# Altium schematic symbol library ESP32-S3-WROOM-1.SchLib: 61 symbols (part 5 of 7)
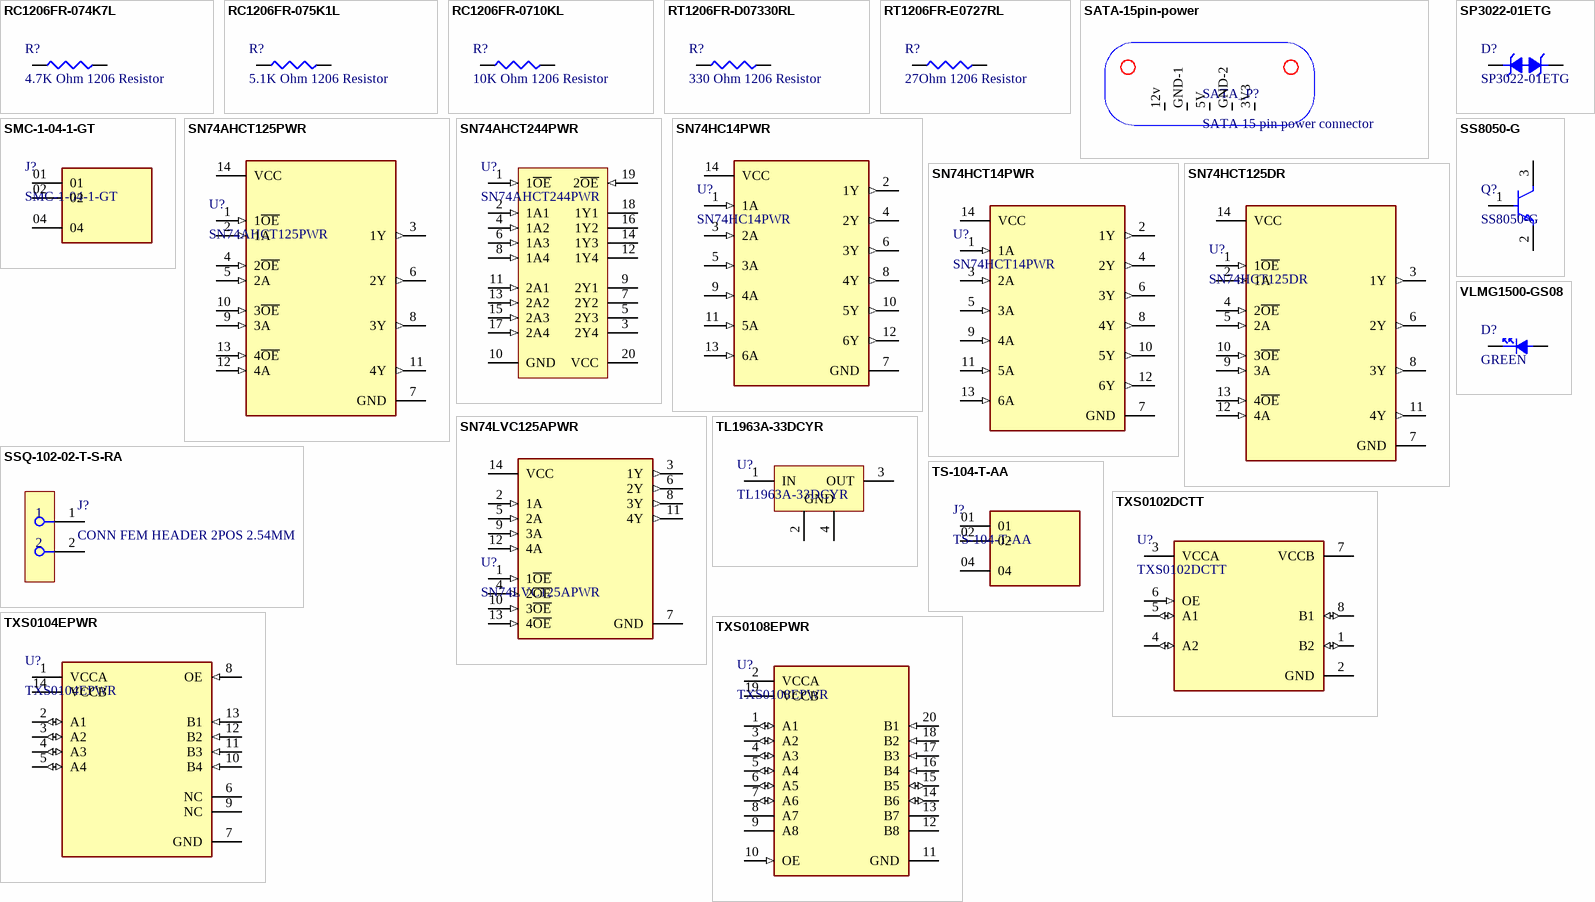
[diagram p5: symbols RC1206FR-074K7L to VLMG1500-GS08]

## SN74AHCT125PWR
designator U?
Buffer, Non-Inverting 4 Element 1 Bit per Element 3-State Output 14-TSSOP; Manufacturer: Texas Instruments; Manufacturer Lifecycle Status: ACTIVE; High Level Output Current: -8mA; Logic Function: Buffer, Inverting; Low Level Output Current: 8mA; Max Supply Voltage: 5.5V; Min Supply Voltage: 4.5V; Number of Bits: 4; Number of Bits per Element: 1; Operating Supply Voltage: 5V; Propagation Delay: 7.5ns; Quiescent Current: 2µA; Turn-On Delay Time: 10ns; Supplier: DigiKey; Supplier Part Number: 296-1108-1-ND; Manufacturer Part Number: SN74AHCT125PWR; RoHS: Compliant; Category: Buffers, Drivers and Transceivers; Stock: 7542; Pricing: 1=0.37, 10=0.255, 25=0.37, 100=0.1968, 250=0.18232, 500=0.17356, 1000=0.16658 (EUR); Case/Package: TSSOP; Height: 0m; Lead Free: Lead Free; Length: 5mm; Lifecycle Status: Production; Max Operating Temperature: 125°C; Min Operating Temperature: -40°C; Mounting Technology: Surface Mount; Number of Channels: 4; Number of Circuits: 4; Number of Elements: 4; Number of Input Lines: 4; Number of Inputs: 4; Number of Output Lines: 4; Number of Outputs: 4; Pins: 14; Packaging: Cut Tape; Polarity: Non-Inverting; Radiation Hardening: No; REACH SVHC: No; Schedule B: 8542390000, 8542390000|8542390000|8542390000|8542390000|8542390000; Thickness: 1mm; Width: 4.4mm; ComponentLink1URL: https://sigma.octopart.com:443/182471031/technical_drawing/Texas-Instruments-SN74AHCT125PWR.pdf?src-supplier=Texas+Instruments; ComponentLink1Description: https://sigma.octopart.com:443/182471031/technical_drawing/Texas-Instruments-SN74AHCT125PWR.pdf?src-supplier=Texas+Instruments; ComponentLink2URL: https://octopart.com:443/opatz8j6/c1?t=b4ISKB42rleMyitUhtZh1S7NnrRTez5ZmJiqnywxnjJ0PMEwORWw-hWuP0mkps2yUWodIIzH-1dVbo-vrJq2phLfOMzKCmhzz-TC0v_M0ZeAOjJbni96T6dkR5JhE7Q2OEr_tSBkqSVGRCWYcQIs7H_SydEvJLdqHoS6u77Qqgon95mVOr1Fkw3PeULcnIXY7uPfvN1stwzLp2iqzFPl8KdhebMhuLijNHTudKes0qeDi5gpjhpZ3Km5lPePg303motdgCvNLREyAos5FgaySZjoGY_wAWkGDyeCM64qM5E1zN-yKO4dipR6vaFzDXG7Pgqq-GieXRJuVHvyxGKsFgWoi7HMJGioN4c4_zYmUwcXIMDGWIchrvwqTKnqPzM3bbbKdQP3q9o&src-supplier=Texas+Instruments; ComponentLink2Description: https://octopart.com:443/opatz8j6/c1?t=b4ISKB42rleMyitUhtZh1S7NnrRTez5ZmJiqnywxnjJ0PMEwORWw-hWuP0mkps2yUWodIIzH-1dVbo-vrJq2phLfOMzKCmhzz-TC0v_M0ZeAOjJbni96T6dkR5JhE7Q2OEr_tSBkqSVGRCWYcQIs7H_SydEvJLdqHoS6u77Qqgon95mVOr1Fkw3PeULcnIXY7uPfvN1stwzLp2iqzFPl8KdhebMhuLijNHTudKes0qeDi5gpjhpZ3Km5lPePg303motdgCvNLREyAos5FgaySZjoGY_wAWkGDyeCM64qM5E1zN-yKO4dipR6vaFzDXG7Pgqq-GieXRJuVHvyxGKsFgWoi7HMJGioN4c4_zYmUwcXIMDGWIchrvwqTKnqPzM3bbbKdQP3q9o&src-supplier=Texas+Instruments; ComponentLink3URL: https://datasheet.octopart.com:443/SN74AHCT125PWR-Texas-Instruments-datasheet-10255123.pdf?src-supplier=Texas+Instruments; ComponentLink3Description: https://datasheet.octopart.com:443/SN74AHCT125PWR-Texas-Instruments-datasheet-10255123.pdf?src-supplier=Texas+Instruments; ComponentLink4URL: https://sigma.octopart.com:443/49249819/technical_drawing/Texas-Instruments-SN74AHCT125PWR.pdf?src-supplier=Texas+Instruments; ComponentLink4Description: https://sigma.octopart.com:443/49249819/technical_drawing/Texas-Instruments-SN74AHCT125PWR.pdf?src-supplier=Texas+Instruments; ComponentLink5URL: https://datasheet.octopart.com:443/SN74AHCT125PWR-Texas-Instruments-datasheet-148811.pdf?src-supplier=Texas+Instruments; ComponentLink5Description: https://datasheet.octopart.com:443/SN74AHCT125PWR-Texas-Instruments-datasheet-148811.pdf?src-supplier=Texas+Instruments; ComponentLink6URL: https://datasheet.octopart.com:443/SN74AHCT125PWR-Texas-Instruments-datasheet-31669041.pdf?src-supplier=Farnell; ComponentLink6Description: https://datasheet.octopart.com:443/SN74AHCT125PWR-Texas-Instruments-datasheet-31669041.pdf?src-supplier=Farnell; ComponentLink7URL: https://datasheet.octopart.com:443/SN74AHCT125PWR-Texas-Instruments-datasheet-62314206.pdf?src-supplier=Farnell; ComponentLink7Description: https://datasheet.octopart.com:443/SN74AHCT125PWR-Texas-Instruments-datasheet-62314206.pdf?src-supplier=Farnell; ComponentLink8URL: https://datasheet.octopart.com:443/SN74AHCT125PWR-Texas-Instruments-datasheet-37727060.pdf?src-supplier=Farnell; ComponentLink8Description: https://datasheet.octopart.com:443/SN74AHCT125PWR-Texas-Instruments-datasheet-37727060.pdf?src-supplier=Farnell; ComponentLink9URL: https://datasheet.octopart.com:443/SN74AHCT125PWR-Texas-Instruments-datasheet-32026623.pdf?src-supplier=Newark; ComponentLink9Description: https://datasheet.octopart.com:443/SN74AHCT125PWR-Texas-Instruments-datasheet-32026623.pdf?src-supplier=Newark; ComponentLink10URL: https://datasheet.octopart.com:443/SN74AHCT125PWR-Texas-Instruments-datasheet-10468681.pdf?src-supplier=Newark; ComponentLink10Description: https://datasheet.octopart.com:443/SN74AHCT125PWR-Texas-Instruments-datasheet-10468681.pdf?src-supplier=Newark; ComponentLink11URL: https://datasheet.octopart.com:443/SN74AHCT125PWR-Texas-Instruments-datasheet-8703733.pdf?src-supplier=Newark; ComponentLink11Description: https://datasheet.octopart.com:443/SN74AHCT125PWR-Texas-Instruments-datasheet-8703733.pdf?src-supplier=Newark; ComponentLink12URL: https://datasheet.octopart.com:443/SN74AHCT125PWR-Texas-Instruments-datasheet-7615769.pdf?src-supplier=Newark; ComponentLink12Description: https://datasheet.octopart.com:443/SN74AHCT125PWR-Texas-Instruments-datasheet-7615769.pdf?src-supplier=Newark; ComponentLink13URL: https://datasheet.octopart.com:443/SN74AHCT125PWR-Texas-Instruments-datasheet-164416681.pdf?src-supplier=LCSC; ComponentLink13Description: https://datasheet.octopart.com:443/SN74AHCT125PWR-Texas-Instruments-datasheet-164416681.pdf?src-supplier=LCSC; ComponentLink14URL: https://datasheet.octopart.com:443/SN74AHCT125PWR-Texas-Instruments-datasheet-159115847.pdf?src-supplier=LCSC; ComponentLink14Description: https://datasheet.octopart.com:443/SN74AHCT125PWR-Texas-Instruments-datasheet-159115847.pdf?src-supplier=LCSC; ComponentLink15URL: https://datasheet.octopart.com:443/SN74AHCT125PWR-Texas-Instruments-datasheet-62115950.pdf?src-supplier=element14+APAC; ComponentLink15Description: https://datasheet.octopart.com:443/SN74AHCT125PWR-Texas-Instruments-datasheet-62115950.pdf?src-supplier=element14+APAC; ComponentLink16URL: https://datasheet.octopart.com:443/SN74AHCT125PWR-Texas-Instruments-datasheet-14144370.pdf?src-supplier=iiiC; ComponentLink16Description: https://datasheet.octopart.com:443/SN74AHCT125PWR-Texas-Instruments-datasheet-14144370.pdf?src-supplier=iiiC; ComponentLink17URL: https://datasheet.octopart.com:443/SN74AHCT125PWR-Texas-Instruments-datasheet-11525412.pdf?src-supplier=Arrow+Electronics; ComponentLink17Description: https://datasheet.octopart.com:443/SN74AHCT125PWR-Texas-Instruments-datasheet-11525412.pdf?src-supplier=Arrow+Electronics; ComponentLink18URL: https://datasheet.octopart.com:443/SN74AHCT125PWR-Texas-Instruments-datasheet-8364514.pdf?src-supplier=Jameco; ComponentLink18Description: https://datasheet.octopart.com:443/SN74AHCT125PWR-Texas-Instruments-datasheet-8364514.pdf?src-supplier=Jameco; ComponentLink19URL: https://datasheet.octopart.com:443/SN74AHCT125PWR-Texas-Instruments-datasheet-115055.pdf?src-supplier=Sierra+IC; ComponentLink19Description: https://datasheet.octopart.com:443/SN74AHCT125PWR-Texas-Instruments-datasheet-115055.pdf?src-supplier=Sierra+IC; ComponentLink20URL: https://datasheet.octopart.com:443/SN74AHCT125PWR-Texas-Instruments-datasheet-35848.pdf?src-supplier=DigiKey; ComponentLink20Description: https://datasheet.octopart.com:443/SN74AHCT125PWR-Texas-Instruments-datasheet-35848.pdf?src-supplier=DigiKey; ComponentLink21URL: http://sigma.octopart.com:80/conflict_mineral_statement/Texas-Instruments-company-63.pdf?src-supplier=Compliance+Statements; ComponentLink21Description: http://sigma.octopart.com:80/conflict_mineral_statement/Texas-Instruments-company-63.pdf?src-supplier=Compliance+Statements; ComponentLink22URL: http://sigma.octopart.com:80/reach_statement/Texas-Instruments-company-64.pdf?src-supplier=Compliance+Statements; ComponentLink22Description: http://sigma.octopart.com:80/reach_statement/Texas-Instruments-company-64.pdf?src-supplier=Compliance+Statements; LCSC Part Number: C36365
footprint SN74AHCT125PWR (SOP, 14-Leads, Body 5.1x4.5mm, Pitch 0.65mm, IPC Medium Density)
pins: 1 1~{OE} (in), 2 1A (in), 3 1Y (out), 4 2~{OE} (in), 5 2A (in), 6 2Y (out), 7 GND (power), 8 3Y (out), 9 3A (in), 10 3~{OE} (in), 11 4Y (out), 12 4A (in), 13 4~{OE} (in), 14 VCC (power)

## SN74AHCT244PWR
designator U?
IC BUFF NON-INVERT 5.5V 20-TSSOP; Manufacturer: Texas Instruments; Manufacturer Lifecycle Status: ACTIVE; High Level Output Current: -8mA; Logic Function: Buffer, Inverting; Low Level Output Current: 8mA; Min Supply Voltage: 4.5V; Number of Bits: 8; Number of Bits per Element: 4; Number of Elements: 2; Operating Supply Voltage: 5V; Polarity: Non-Inverting; Propagation Delay: 8.4ns; Quiescent Current: 4µA; Turn-On Delay Time: 13ns; Supplier: DigiKey; Supplier Part Number: 296-1116-1-ND; Manufacturer Part Number: SN74AHCT244PWR; RoHS: Compliant; Category: Buffers, Drivers and Transceivers; Stock: 11683; Pricing: 1=0.43, 10=0.302, 25=0.43, 100=0.2343, 250=0.21744, 500=0.2073, 1000=0.20069 (EUR); Case/Package: TSSOP; Contact Plating: Gold; Height: 0m; Lead Free: Lead Free; Length: 6.5mm; Lifecycle Status: Production; Max Operating Temperature: 85°C; Max Supply Voltage: 5.5V; Min Operating Temperature: -40°C; Mounting Technology: Surface Mount; Number of Input Lines: 8; Number of Inputs: 8; Number of Output Lines: 8; Number of Outputs: 8; Pins: 20; Packaging: Cut Tape; Radiation Hardening: No; REACH SVHC: No; Schedule B: 8542390000, 8542390000|8542390000|8542390000|8542390000|8542390000; Termination: SMD/SMT; Thickness: 1mm; Width: 4.4mm; ComponentLink1URL: https://sigma.octopart.com:443/157851284/technical_drawing/Texas-Instruments-SN74AHCT244PWR.pdf?src-supplier=Texas+Instruments; ComponentLink1Description: https://sigma.octopart.com:443/157851284/technical_drawing/Texas-Instruments-SN74AHCT244PWR.pdf?src-supplier=Texas+Instruments; ComponentLink2URL: https://octopart.com:443/opatz8j6/c1?t=ghJe61n6HiV89-olIjnD38o8K6r9WHTix1tz--1XTpLdkr2Jj0G4zOn4bLiip8ksXJJvDeh_h3XhqV3jFUJDynLYxNoMjyL6NHEpR466wJPtLzw6tBs8gVvIJiLd6aD6UOZIFlskqp0Ep-8gAfLYIZrLVC2xGoymhvH6oXEY9SqN9vbZTloM6avEvf1MB4bD9V1LVp5Lqbi76W7Pl0ucb4l3O25e1vmsXHl0eRZQQtPLcXZwTMNzzJtWnucU1VVaUsawfLREJD5cDAmW7KbiTywpqqWmTFGKRQhdz7VfrRB-SHHmtMjKPksFRvFMQGN1zkEgT_5fzMhbt_l2pvOSM86ovXfmvhbsuKtmu2Jjs9X6CZO94yvkhC5MZAtb2ElL0nUN7tboUw&src-supplier=Texas+Instruments; ComponentLink2Description: https://octopart.com:443/opatz8j6/c1?t=ghJe61n6HiV89-olIjnD38o8K6r9WHTix1tz--1XTpLdkr2Jj0G4zOn4bLiip8ksXJJvDeh_h3XhqV3jFUJDynLYxNoMjyL6NHEpR466wJPtLzw6tBs8gVvIJiLd6aD6UOZIFlskqp0Ep-8gAfLYIZrLVC2xGoymhvH6oXEY9SqN9vbZTloM6avEvf1MB4bD9V1LVp5Lqbi76W7Pl0ucb4l3O25e1vmsXHl0eRZQQtPLcXZwTMNzzJtWnucU1VVaUsawfLREJD5cDAmW7KbiTywpqqWmTFGKRQhdz7VfrRB-SHHmtMjKPksFRvFMQGN1zkEgT_5fzMhbt_l2pvOSM86ovXfmvhbsuKtmu2Jjs9X6CZO94yvkhC5MZAtb2ElL0nUN7tboUw&src-supplier=Texas+Instruments; ComponentLink3URL: https://datasheet.octopart.com:443/SN74AHCT244PWR-Texas-Instruments-datasheet-41214155.pdf?src-supplier=Texas+Instruments; ComponentLink3Description: https://datasheet.octopart.com:443/SN74AHCT244PWR-Texas-Instruments-datasheet-41214155.pdf?src-supplier=Texas+Instruments; ComponentLink4URL: https://datasheet.octopart.com:443/SN74AHCT244PWR-Texas-Instruments-datasheet-10254144.pdf?src-supplier=Texas+Instruments; ComponentLink4Description: https://datasheet.octopart.com:443/SN74AHCT244PWR-Texas-Instruments-datasheet-10254144.pdf?src-supplier=Texas+Instruments; ComponentLink5URL: https://sigma.octopart.com:443/49249835/technical_drawing/Texas-Instruments-SN74AHCT244PWR.pdf?src-supplier=Texas+Instruments; ComponentLink5Description: https://sigma.octopart.com:443/49249835/technical_drawing/Texas-Instruments-SN74AHCT244PWR.pdf?src-supplier=Texas+Instruments; ComponentLink6URL: https://datasheet.octopart.com:443/SN74AHCT244PWR-Texas-Instruments-datasheet-152663.pdf?src-supplier=Texas+Instruments; ComponentLink6Description: https://datasheet.octopart.com:443/SN74AHCT244PWR-Texas-Instruments-datasheet-152663.pdf?src-supplier=Texas+Instruments; ComponentLink7URL: https://datasheet.octopart.com:443/SN74AHCT244PWR-Texas-Instruments-datasheet-27606291.pdf?src-supplier=element14+APAC; ComponentLink7Description: https://datasheet.octopart.com:443/SN74AHCT244PWR-Texas-Instruments-datasheet-27606291.pdf?src-supplier=element14+APAC; ComponentLink8URL: https://datasheet.octopart.com:443/SN74AHCT244PWR-Texas-Instruments-datasheet-21133542.pdf?src-supplier=element14+APAC; ComponentLink8Description: https://datasheet.octopart.com:443/SN74AHCT244PWR-Texas-Instruments-datasheet-21133542.pdf?src-supplier=element14+APAC; ComponentLink9URL: https://datasheet.octopart.com:443/SN74AHCT244PWR-Texas-Instruments-datasheet-27203569.pdf?src-supplier=element14+APAC; ComponentLink9Description: https://datasheet.octopart.com:443/SN74AHCT244PWR-Texas-Instruments-datasheet-27203569.pdf?src-supplier=element14+APAC; ComponentLink10URL: https://datasheet.octopart.com:443/SN74AHCT244PWR-Texas-Instruments-datasheet-25360952.pdf?src-supplier=element14+APAC; ComponentLink10Description: https://datasheet.octopart.com:443/SN74AHCT244PWR-Texas-Instruments-datasheet-25360952.pdf?src-supplier=element14+APAC; ComponentLink11URL: https://datasheet.octopart.com:443/SN74AHCT244PWR-Texas-Instruments-datasheet-65863357.pdf?src-supplier=Farnell; ComponentLink11Description: https://datasheet.octopart.com:443/SN74AHCT244PWR-Texas-Instruments-datasheet-65863357.pdf?src-supplier=Farnell; ComponentLink12URL: https://datasheet.octopart.com:443/SN74AHCT244PWR-Texas-Instruments-datasheet-11523990.pdf?src-supplier=Farnell; ComponentLink12Description: https://datasheet.octopart.com:443/SN74AHCT244PWR-Texas-Instruments-datasheet-11523990.pdf?src-supplier=Farnell; ComponentLink13URL: https://datasheet.octopart.com:443/SN74AHCT244PWR-Texas-Instruments-datasheet-11003095.pdf?src-supplier=Farnell; ComponentLink13Description: https://datasheet.octopart.com:443/SN74AHCT244PWR-Texas-Instruments-datasheet-11003095.pdf?src-supplier=Farnell; ComponentLink14URL: https://datasheet.octopart.com:443/SN74AHCT244PWR-Texas-Instruments-datasheet-8361317.pdf?src-supplier=Newark; ComponentLink14Description: https://datasheet.octopart.com:443/SN74AHCT244PWR-Texas-Instruments-datasheet-8361317.pdf?src-supplier=Newark; ComponentLink15URL: https://datasheet.octopart.com:443/SN74AHCT244PWR-Texas-Instruments-datasheet-5317733.pdf?src-supplier=Newark; ComponentLink15Description: https://datasheet.octopart.com:443/SN74AHCT244PWR-Texas-Instruments-datasheet-5317733.pdf?src-supplier=Newark; ComponentLink16URL: https://datasheet.octopart.com:443/SN74AHCT244PWR-Texas-Instruments-datasheet-166100610.pdf?src-supplier=Augswan; ComponentLink16Description: https://datasheet.octopart.com:443/SN74AHCT244PWR-Texas-Instruments-datasheet-166100610.pdf?src-supplier=Augswan; ComponentLink17URL: https://datasheet.octopart.com:443/SN74AHCT244PWR-Texas-Instruments-datasheet-164411996.pdf?src-supplier=SHENGYU+ELECTRONICS; ComponentLink17Description: https://datasheet.octopart.com:443/SN74AHCT244PWR-Texas-Instruments-datasheet-164411996.pdf?src-supplier=SHENGYU+ELECTRONICS; ComponentLink18URL: https://datasheet.octopart.com:443/SN74AHCT244PWR-Texas-Instruments-datasheet-159115862.pdf?src-supplier=LCSC; ComponentLink18Description: https://datasheet.octopart.com:443/SN74AHCT244PWR-Texas-Instruments-datasheet-159115862.pdf?src-supplier=LCSC; ComponentLink19URL: https://datasheet.octopart.com:443/SN74AHCT244PWR-Texas-Instruments-datasheet-17022234.pdf?src-supplier=Factory+Futures; ComponentLink19Description: https://datasheet.octopart.com:443/SN74AHCT244PWR-Texas-Instruments-datasheet-17022234.pdf?src-supplier=Factory+Futures; ComponentLink20URL: https://datasheet.octopart.com:443/SN74AHCT244PWR-Texas-Instruments-datasheet-14144309.pdf?src-supplier=iiiC; ComponentLink20Description: https://datasheet.octopart.com:443/SN74AHCT244PWR-Texas-Instruments-datasheet-14144309.pdf?src-supplier=iiiC; ComponentLink21URL: https://datasheet.octopart.com:443/SN74AHCT244PWR-Texas-Instruments-datasheet-7556590.pdf?src-supplier=Jameco; ComponentLink21Description: https://datasheet.octopart.com:443/SN74AHCT244PWR-Texas-Instruments-datasheet-7556590.pdf?src-supplier=Jameco; ComponentLink22URL: https://datasheet.octopart.com:443/SN74AHCT244PWR-Texas-Instruments-datasheet-115050.pdf?src-supplier=Sierra+IC; ComponentLink22Description: https://datasheet.octopart.com:443/SN74AHCT244PWR-Texas-Instruments-datasheet-115050.pdf?src-supplier=Sierra+IC; ComponentLink23URL: https://datasheet.octopart.com:443/SN74AHCT244PWR-Texas-Instruments-datasheet-2641.pdf?src-supplier=DigiKey; ComponentLink23Description: https://datasheet.octopart.com:443/SN74AHCT244PWR-Texas-Instruments-datasheet-2641.pdf?src-supplier=DigiKey; ComponentLink24URL: http://sigma.octopart.com:80/conflict_mineral_statement/Texas-Instruments-company-63.pdf?src-supplier=Compliance+Statements; ComponentLink24Description: http://sigma.octopart.com:80/conflict_mineral_statement/Texas-Instruments-company-63.pdf?src-supplier=Compliance+Statements; ComponentLink25URL: http://sigma.octopart.com:80/reach_statement/Texas-Instruments-company-64.pdf?src-supplier=Compliance+Statements; ComponentLink25Description: http://sigma.octopart.com:80/reach_statement/Texas-Instruments-company-64.pdf?src-supplier=Compliance+Statements; LCSC Part Number: C484743
footprint SN74AHCT244PWR (SOP, 20-Leads, Body 6.6x4.5mm, Pitch 0.65mm, IPC High Density)
pins: 1 1~{OE} (in) "Output Enable 1", 2 1A1 (in) "1A1 Input", 3 2Y4 (hiz) "1Y4 Output", 4 1A2 (in) "1A2 Input", 5 2Y3 (hiz) "1Y3 Output", 6 1A3 (in) "1A3 Input", 7 2Y2 (hiz) "1Y2 Output", 8 1A4 (in) "1A4 Input", 9 2Y1 (hiz) "1Y1 Output", 10 GND (power) "Output Enable 1", 11 2A1 (in) "1A1 Input", 12 1Y4 (hiz) "1Y4 Output", 13 2A2 (in) "1A2 Input", 14 1Y3 (hiz) "1Y3 Output", 15 2A3 (in) "1A3 Input", 16 1Y2 (hiz) "1Y2 Output", 17 2A4 (in) "1A4 Input", 18 1Y1 (hiz) "1Y1 Output", 19 2~{OE} (in) "Output Enable 1", 20 VCC (power)

## SN74HC14PWR
designator U?
IC INVERTER 6CH 1-INP 14TSSOP; Manufacturer: Texas Instruments; Manufacturer Lifecycle Status: ACTIVE; High Level Output Current: -5.2mA; Logic Function: Buffer, Inverter, Schmitt Trigger; Low Level Output Current: 5.2mA; Max Junction Temperature (Tj): 150°C; Max Supply Voltage: 6V; Min Supply Voltage: 2V; Nominal Supply Current: 2µA; Number of Bits: 6; Number of Inputs: 1; Operating Supply Voltage: 5V; Output Current: 25mA; Propagation Delay: 11ns; Turn-On Delay Time: 31ns; Supplier: DigiKey; Supplier Part Number: 296-8234-1-ND; Manufacturer Part Number: SN74HC14PWR; RoHS: Compliant; Category: Logic Gates; Stock: 34107; Pricing: 1=0.25, 10=0.174, 25=0.25, 100=0.1324, 250=0.12204, 500=0.11582, 1000=0.11069 (EUR); Ambient Temperature Range High: 85°C; Case/Package: TSSOP; Contact Plating: Gold; Height: 0m; Lead Free: Lead Free; Length: 5mm; Lifecycle Status: Production; Max Operating Temperature: 85°C; Min Operating Temperature: -40°C; Mounting Technology: Surface Mount; Number of Channels: 6; Number of Circuits: 6; Number of Elements: 6; Number of Gates: 6; Number of Outputs: 1; Pins: 14; Quiescent Current: 2µA; Radiation Hardening: No; REACH SVHC: No; Schedule B: 8542390000, 8542390000|8542390000|8542390000|8542390000|8542390000; Thickness: 1mm; Weight: 57.209338mg; Width: 4.4mm; ComponentLink1URL: https://sigma.octopart.com:443/182471031/technical_drawing/Texas-Instruments-SN74HC14PWR.pdf?src-supplier=Texas+Instruments; ComponentLink1Description: https://sigma.octopart.com:443/182471031/technical_drawing/Texas-Instruments-SN74HC14PWR.pdf?src-supplier=Texas+Instruments; ComponentLink2URL: https://octopart.com:443/opatz8j6/c1?t=mgRqS-hfAv7mW99aHGtXe0uUQtkE4j_ResFexbnUcfozyNiycuVPUD79LJdKfGOCnCdkgkYZTUKD9_-dfm0Fcd2jq3Eu8k-uXuUYFXBpJ7Fb_Dfnew8Ij2yrF2NZXflAE1Q8RIB_BRTD8wfNgg4gHkuUohgl8J8utb9PDFkQshknjIQL1jQPyJjA17LwX5cfq7MDZsGjhLLtgG-DO7cbyCef4COWysZxDjztciZmLaZLrABMH2FQMHC6HNyCzTqN1Wgw2LiaTUC6_zrgfsxfl-iQ2kU3qIlY6q5pj8XVvm1obkSu-F1OyAmKNyh8mkA6ypTuZJh0ZT_h2OZ458n8XOPegfQ8-jxvAxswD2V3FJ6yclYDOJwov7Kxj2cqY3xhFk-1Ew&src-supplier=Texas+Instruments; ComponentLink2Description: https://octopart.com:443/opatz8j6/c1?t=mgRqS-hfAv7mW99aHGtXe0uUQtkE4j_ResFexbnUcfozyNiycuVPUD79LJdKfGOCnCdkgkYZTUKD9_-dfm0Fcd2jq3Eu8k-uXuUYFXBpJ7Fb_Dfnew8Ij2yrF2NZXflAE1Q8RIB_BRTD8wfNgg4gHkuUohgl8J8utb9PDFkQshknjIQL1jQPyJjA17LwX5cfq7MDZsGjhLLtgG-DO7cbyCef4COWysZxDjztciZmLaZLrABMH2FQMHC6HNyCzTqN1Wgw2LiaTUC6_zrgfsxfl-iQ2kU3qIlY6q5pj8XVvm1obkSu-F1OyAmKNyh8mkA6ypTuZJh0ZT_h2OZ458n8XOPegfQ8-jxvAxswD2V3FJ6yclYDOJwov7Kxj2cqY3xhFk-1Ew&src-supplier=Texas+Instruments; ComponentLink3URL: https://datasheet.octopart.com:443/SN74HC14PWR-Texas-Instruments-datasheet-22122188.pdf?src-supplier=Texas+Instruments; ComponentLink3Description: https://datasheet.octopart.com:443/SN74HC14PWR-Texas-Instruments-datasheet-22122188.pdf?src-supplier=Texas+Instruments; ComponentLink4URL: https://datasheet.octopart.com:443/SN74HC14PWR-Texas-Instruments-datasheet-10743327.pdf?src-supplier=Texas+Instruments; ComponentLink4Description: https://datasheet.octopart.com:443/SN74HC14PWR-Texas-Instruments-datasheet-10743327.pdf?src-supplier=Texas+Instruments; ComponentLink5URL: https://datasheet.octopart.com:443/SN74HC14PWR-Texas-Instruments-datasheet-10254369.pdf?src-supplier=Texas+Instruments; ComponentLink5Description: https://datasheet.octopart.com:443/SN74HC14PWR-Texas-Instruments-datasheet-10254369.pdf?src-supplier=Texas+Instruments; ComponentLink6URL: https://sigma.octopart.com:443/49249819/technical_drawing/Texas-Instruments-SN74HC14PWR.pdf?src-supplier=Texas+Instruments; ComponentLink6Description: https://sigma.octopart.com:443/49249819/technical_drawing/Texas-Instruments-SN74HC14PWR.pdf?src-supplier=Texas+Instruments; ComponentLink7URL: https://datasheet.octopart.com:443/SN74HC14PWR-Texas-Instruments-datasheet-151874.pdf?src-supplier=Texas+Instruments; ComponentLink7Description: https://datasheet.octopart.com:443/SN74HC14PWR-Texas-Instruments-datasheet-151874.pdf?src-supplier=Texas+Instruments; ComponentLink8URL: https://datasheet.octopart.com:443/SN74HC14PWR-Texas-Instruments-datasheet-37129453.pdf?src-supplier=Farnell; ComponentLink8Description: https://datasheet.octopart.com:443/SN74HC14PWR-Texas-Instruments-datasheet-37129453.pdf?src-supplier=Farnell; ComponentLink9URL: https://datasheet.octopart.com:443/SN74HC14PWR-Texas-Instruments-datasheet-12357349.pdf?src-supplier=Farnell; ComponentLink9Description: https://datasheet.octopart.com:443/SN74HC14PWR-Texas-Instruments-datasheet-12357349.pdf?src-supplier=Farnell; ComponentLink10URL: https://datasheet.octopart.com:443/SN74HC14PWR-Texas-Instruments-datasheet-11517478.pdf?src-supplier=Farnell; ComponentLink10Description: https://datasheet.octopart.com:443/SN74HC14PWR-Texas-Instruments-datasheet-11517478.pdf?src-supplier=Farnell; ComponentLink11URL: https://datasheet.octopart.com:443/SN74HC14PWR-Texas-Instruments-datasheet-62115966.pdf?src-supplier=Farnell; ComponentLink11Description: https://datasheet.octopart.com:443/SN74HC14PWR-Texas-Instruments-datasheet-62115966.pdf?src-supplier=Farnell; ComponentLink12URL: https://datasheet.octopart.com:443/SN74HC14PWR-Texas-Instruments-datasheet-147851288.pdf?src-supplier=Upverter; ComponentLink12Description: https://datasheet.octopart.com:443/SN74HC14PWR-Texas-Instruments-datasheet-147851288.pdf?src-supplier=Upverter; ComponentLink13URL: https://datasheet.octopart.com:443/SN74HC14PWR-Texas-Instruments-datasheet-62313149.pdf?src-supplier=Newark; ComponentLink13Description: https://datasheet.octopart.com:443/SN74HC14PWR-Texas-Instruments-datasheet-62313149.pdf?src-supplier=Newark; ComponentLink14URL: https://datasheet.octopart.com:443/SN74HC14PWR-Texas-Instruments-datasheet-32036646.pdf?src-supplier=element14+APAC; ComponentLink14Description: https://datasheet.octopart.com:443/SN74HC14PWR-Texas-Instruments-datasheet-32036646.pdf?src-supplier=element14+APAC; ComponentLink15URL: https://datasheet.octopart.com:443/SN74HC14PWR-Texas-Instruments-datasheet-165804426.pdf?src-supplier=LCSC; ComponentLink15Description: https://datasheet.octopart.com:443/SN74HC14PWR-Texas-Instruments-datasheet-165804426.pdf?src-supplier=LCSC; ComponentLink16URL: https://datasheet.octopart.com:443/SN74HC14PWR-Texas-Instruments-datasheet-159116051.pdf?src-supplier=LCSC; ComponentLink16Description: https://datasheet.octopart.com:443/SN74HC14PWR-Texas-Instruments-datasheet-159116051.pdf?src-supplier=LCSC; ComponentLink17URL: https://datasheet.octopart.com:443/SN74HC14PWR-Texas-Instruments-datasheet-166100818.pdf?src-supplier=Augswan; ComponentLink17Description: https://datasheet.octopart.com:443/SN74HC14PWR-Texas-Instruments-datasheet-166100818.pdf?src-supplier=Augswan; ComponentLink18URL: https://datasheet.octopart.com:443/SN74HC14PWR-Texas-Instruments-datasheet-137316104.pdf?src-supplier=Future+Electronics; ComponentLink18Description: https://datasheet.octopart.com:443/SN74HC14PWR-Texas-Instruments-datasheet-137316104.pdf?src-supplier=Future+Electronics; ComponentLink19URL: https://datasheet.octopart.com:443/SN74HC14PWR-Texas-Instruments-datasheet-14147618.pdf?src-supplier=iiiC; ComponentLink19Description: https://datasheet.octopart.com:443/SN74HC14PWR-Texas-Instruments-datasheet-14147618.pdf?src-supplier=iiiC; ComponentLink20URL: https://datasheet.octopart.com:443/SN74HC14PWR-Texas-Instruments-datasheet-11551913.pdf?src-supplier=Arrow+Electronics; ComponentLink20Description: https://datasheet.octopart.com:443/SN74HC14PWR-Texas-Instruments-datasheet-11551913.pdf?src-supplier=Arrow+Electronics; ComponentLink21URL: https://datasheet.octopart.com:443/SN74HC14PWR-Texas-Instruments-datasheet-41751.pdf?src-supplier=DigiKey; ComponentLink21Description: https://datasheet.octopart.com:443/SN74HC14PWR-Texas-Instruments-datasheet-41751.pdf?src-supplier=DigiKey; ComponentLink22URL: https://datasheet.octopart.com:443/SN74HC14PWR-Texas-Instruments-datasheet-7558321.pdf?src-supplier=Jameco; ComponentLink22Description: https://datasheet.octopart.com:443/SN74HC14PWR-Texas-Instruments-datasheet-7558321.pdf?src-supplier=Jameco; ComponentLink23URL: https://datasheet.octopart.com:443/SN74HC14PWR-Texas-Instruments-datasheet-114860.pdf?src-supplier=Sierra+IC; ComponentLink23Description: https://datasheet.octopart.com:443/SN74HC14PWR-Texas-Instruments-datasheet-114860.pdf?src-supplier=Sierra+IC; ComponentLink24URL: http://sigma.octopart.com:80/conflict_mineral_statement/Texas-Instruments-company-63.pdf?src-supplier=Compliance+Statements; ComponentLink24Description: http://sigma.octopart.com:80/conflict_mineral_statement/Texas-Instruments-company-63.pdf?src-supplier=Compliance+Statements; ComponentLink25URL: http://sigma.octopart.com:80/reach_statement/Texas-Instruments-company-64.pdf?src-supplier=Compliance+Statements; ComponentLink25Description: http://sigma.octopart.com:80/reach_statement/Texas-Instruments-company-64.pdf?src-supplier=Compliance+Statements; LCSC Part Number: C6821
footprint SN74HC14PWR
pins: 1 1A (in), 2 1Y (out), 3 2A (in), 4 2Y (out), 5 3A (in), 6 3Y (out), 7 GND (power), 8 4Y (out), 9 4A (in), 10 5Y (out), 11 5A (in), 12 6Y (out), 13 6A (in), 14 VCC (power)

## SN74HCT14PWR
designator U?
IC INVERTER 6CH 1-INP TTL 14TSSOP; Manufacturer: Texas Instruments; Manufacturer Lifecycle Status: ACTIVE; High Level Output Current: -4mA; Low Level Output Current: 4mA; Max Junction Temperature (Tj): 150°C; Max Supply Voltage: 5.5V; Min Supply Voltage: 4.5V; Nominal Supply Current: 2µA; Number of Bits: 6; Number of Inputs: 1; Operating Supply Voltage: 5V; Propagation Delay: 18ns; Schmitt Trigger Input: Yes; Turn-On Delay Time: 38ns; Supplier: DigiKey; Supplier Part Number: 296-8395-1-ND; Manufacturer Part Number: SN74HCT14PWR; RoHS: Compliant; Category: Logic Gates; Stock: 8855; Pricing: 1=0.41, 10=0.284, 25=0.41, 100=0.2202, 250=0.20416, 500=0.19448, 1000=0.18765 (EUR); Ambient Temperature Range High: 85°C; Case/Package: TSSOP; Contact Plating: Gold; Height: 0m; Lead Free: Lead Free; Length: 5mm; Lifecycle Status: Production; Logic Function: Inverter; Max Operating Temperature: 85°C; Max Output current: 4mA; Min Operating Temperature: -40°C; Mounting Technology: Surface Mount; Number of Channels: 6; Number of Circuits: 6; Number of Elements: 6; Number of Gates: 6; Number of Outputs: 1; Pins: 14; Output Current: 4mA; Packaging: Cut Tape; Quiescent Current: 2µA; Radiation Hardening: No; REACH SVHC: No; Schedule B: 8542390000, 8542390000|8542390000|8542390000|8542390000|8542390000; Termination: SMD/SMT; Thickness: 1mm; Weight: 57.209338mg; Width: 4.4mm; ComponentLink1URL: https://sigma.octopart.com:443/182471031/technical_drawing/Texas-Instruments-SN74HCT14PWR.pdf?src-supplier=Texas+Instruments; ComponentLink1Description: https://sigma.octopart.com:443/182471031/technical_drawing/Texas-Instruments-SN74HCT14PWR.pdf?src-supplier=Texas+Instruments; ComponentLink2URL: https://octopart.com:443/opatz8j6/c1?t=hWRPZ3-DGPCQulAjylJ4vnBKrLaSpo4pFHxnmTnOTrbOGN6mtinVTLrh8Jfhy15JHSYFYNjQQzIdt-CUv2XBA2OXJ7PNEBQbJ_1YLElMpkc7xoOImBz8sUMksN73OxlnvLt82yfWRx8QuqKYchhTBzgjxnZchHH-8YSWtRjD6-FTU_Ko9vsU1xdRcCMPRdUyzJzfHLMgYpITuzXKBIHm-XIfbOpWzaZdILgj-LrJw6Qxd4MZjg7N4T0vRprJgqVGDb1noCsTCVtel23Vo83ZT0n-3eTcOI87Gbey_3PCC9M8O8sXuaZ-hUT6YAN0v5W6V2i1lQ2sGhKIk-2NDFzCBjybg36EnCLez14zMs2xfD1UUfFjj6yV0G7b3aKazPQzq4JTnMc&src-supplier=Texas+Instruments; ComponentLink2Description: https://octopart.com:443/opatz8j6/c1?t=hWRPZ3-DGPCQulAjylJ4vnBKrLaSpo4pFHxnmTnOTrbOGN6mtinVTLrh8Jfhy15JHSYFYNjQQzIdt-CUv2XBA2OXJ7PNEBQbJ_1YLElMpkc7xoOImBz8sUMksN73OxlnvLt82yfWRx8QuqKYchhTBzgjxnZchHH-8YSWtRjD6-FTU_Ko9vsU1xdRcCMPRdUyzJzfHLMgYpITuzXKBIHm-XIfbOpWzaZdILgj-LrJw6Qxd4MZjg7N4T0vRprJgqVGDb1noCsTCVtel23Vo83ZT0n-3eTcOI87Gbey_3PCC9M8O8sXuaZ-hUT6YAN0v5W6V2i1lQ2sGhKIk-2NDFzCBjybg36EnCLez14zMs2xfD1UUfFjj6yV0G7b3aKazPQzq4JTnMc&src-supplier=Texas+Instruments; ComponentLink3URL: https://datasheet.octopart.com:443/SN74HCT14PWR-Texas-Instruments-datasheet-10256908.pdf?src-supplier=Texas+Instruments; ComponentLink3Description: https://datasheet.octopart.com:443/SN74HCT14PWR-Texas-Instruments-datasheet-10256908.pdf?src-supplier=Texas+Instruments; ComponentLink4URL: https://sigma.octopart.com:443/49249819/technical_drawing/Texas-Instruments-SN74HCT14PWR.pdf?src-supplier=Texas+Instruments; ComponentLink4Description: https://sigma.octopart.com:443/49249819/technical_drawing/Texas-Instruments-SN74HCT14PWR.pdf?src-supplier=Texas+Instruments; ComponentLink5URL: https://datasheet.octopart.com:443/SN74HCT14PWR-Texas-Instruments-datasheet-151466.pdf?src-supplier=Texas+Instruments; ComponentLink5Description: https://datasheet.octopart.com:443/SN74HCT14PWR-Texas-Instruments-datasheet-151466.pdf?src-supplier=Texas+Instruments; ComponentLink6URL: https://datasheet.octopart.com:443/SN74HCT14PWR-Texas-Instruments-datasheet-149152590.pdf?src-supplier=Upverter; ComponentLink6Description: https://datasheet.octopart.com:443/SN74HCT14PWR-Texas-Instruments-datasheet-149152590.pdf?src-supplier=Upverter; ComponentLink7URL: https://datasheet.octopart.com:443/SN74HCT14PWR-Texas-Instruments-datasheet-65855891.pdf?src-supplier=Farnell; ComponentLink7Description: https://datasheet.octopart.com:443/SN74HCT14PWR-Texas-Instruments-datasheet-65855891.pdf?src-supplier=Farnell; ComponentLink8URL: https://datasheet.octopart.com:443/SN74HCT14PWR-Texas-Instruments-datasheet-5300681.pdf?src-supplier=Farnell; ComponentLink8Description: https://datasheet.octopart.com:443/SN74HCT14PWR-Texas-Instruments-datasheet-5300681.pdf?src-supplier=Farnell; ComponentLink9URL: https://datasheet.octopart.com:443/SN74HCT14PWR-Texas-Instruments-datasheet-165804453.pdf?src-supplier=LCSC; ComponentLink9Description: https://datasheet.octopart.com:443/SN74HCT14PWR-Texas-Instruments-datasheet-165804453.pdf?src-supplier=LCSC; ComponentLink10URL: https://datasheet.octopart.com:443/SN74HCT14PWR-Texas-Instruments-datasheet-159116242.pdf?src-supplier=LCSC; ComponentLink10Description: https://datasheet.octopart.com:443/SN74HCT14PWR-Texas-Instruments-datasheet-159116242.pdf?src-supplier=LCSC; ComponentLink11URL: https://datasheet.octopart.com:443/SN74HCT14PWR-Texas-Instruments-datasheet-164411827.pdf?src-supplier=SHENGYU+ELECTRONICS; ComponentLink11Description: https://datasheet.octopart.com:443/SN74HCT14PWR-Texas-Instruments-datasheet-164411827.pdf?src-supplier=SHENGYU+ELECTRONICS; ComponentLink12URL: https://datasheet.octopart.com:443/SN74HCT14PWR-Texas-Instruments-datasheet-32750681.pdf?src-supplier=Newark; ComponentLink12Description: https://datasheet.octopart.com:443/SN74HCT14PWR-Texas-Instruments-datasheet-32750681.pdf?src-supplier=Newark; ComponentLink13URL: https://datasheet.octopart.com:443/SN74HCT14PWR-Texas-Instruments-datasheet-11537239.pdf?src-supplier=Newark; ComponentLink13Description: https://datasheet.octopart.com:443/SN74HCT14PWR-Texas-Instruments-datasheet-11537239.pdf?src-supplier=Newark; ComponentLink14URL: https://datasheet.octopart.com:443/SN74HCT14PWR-Texas-Instruments-datasheet-14147486.pdf?src-supplier=iiiC; ComponentLink14Description: https://datasheet.octopart.com:443/SN74HCT14PWR-Texas-Instruments-datasheet-14147486.pdf?src-supplier=iiiC; ComponentLink15URL: https://datasheet.octopart.com:443/SN74HCT14PWR-Texas-Instruments-datasheet-114886.pdf?src-supplier=Sierra+IC; ComponentLink15Description: https://datasheet.octopart.com:443/SN74HCT14PWR-Texas-Instruments-datasheet-114886.pdf?src-supplier=Sierra+IC; ComponentLink16URL: https://datasheet.octopart.com:443/SN74HCT14PWR-Texas-Instruments-datasheet-45522.pdf?src-supplier=DigiKey; ComponentLink16Description: https://datasheet.octopart.com:443/SN74HCT14PWR-Texas-Instruments-datasheet-45522.pdf?src-supplier=DigiKey; ComponentLink17URL: http://sigma.octopart.com:80/conflict_mineral_statement/Texas-Instruments-company-63.pdf?src-supplier=Compliance+Statements; ComponentLink17Description: http://sigma.octopart.com:80/conflict_mineral_statement/Texas-Instruments-company-63.pdf?src-supplier=Compliance+Statements; ComponentLink18URL: http://sigma.octopart.com:80/reach_statement/Texas-Instruments-company-64.pdf?src-supplier=Compliance+Statements; ComponentLink18Description: http://sigma.octopart.com:80/reach_statement/Texas-Instruments-company-64.pdf?src-supplier=Compliance+Statements; LCSC Part Number: C133639
footprint SN74HC14PWR
pins: 1 1A (in), 2 1Y (out), 3 2A (in), 4 2Y (out), 5 3A (in), 6 3Y (out), 7 GND (power), 8 4Y (out), 9 4A (in), 10 5Y (out), 11 5A (in), 12 6Y (out), 13 6A (in), 14 VCC (power)

## SN74HCT125DR
designator U?
IC BUFF NON-INVERT 5.5V 14-SOIC; Manufacturer: Texas Instruments; Manufacturer Lifecycle Status: ACTIVE; High Level Output Current: -6mA; Logic Function: Buffer, Inverting; Low Level Output Current: 6mA; Min Supply Voltage: 4.5V; Nominal Supply Current: 8µA; Number of Bits: 4; Number of Bits per Element: 1; Number of Inputs: 2; Operating Supply Voltage: 5V; Polarity: Non-Inverting; Propagation Delay: 33ns; Turn-On Delay Time: 36ns; Supplier: DigiKey; Supplier Part Number: 296-1206-6-ND; Manufacturer Part Number: SN74HCT125DR; RoHS: Compliant; Category: Buffers, Drivers and Transceivers; Stock: 6931; Pricing: 1=0.31, 10=0.211, 25=0.31, 100=0.1619, 250=0.1496, 500=0.1422, 1000=0.13609 (EUR); Ambient Temperature Range High: 85°C; Case/Package: SOIC; Contact Plating: Gold; Height: 0m; Lead Free: Lead Free; Length: 8.65mm; Lifecycle Status: Production; Max Operating Temperature: 85°C; Max Supply Voltage: 5.5V; Min Operating Temperature: -40°C; Mounting Technology: Surface Mount; Number of Channels: 4; Number of Circuits: 4; Number of Elements: 4; Number of Input Lines: 4; Number of Output Lines: 4; Number of Outputs: 4; Pins: 14; Packaging: Tape & Reel; Quiescent Current: 8µA; Radiation Hardening: No; REACH SVHC: No; Schedule B: 8542390000, 8542390000|8542390000|8542390000|8542390000|8542390000; Thickness: 1.58mm; Width: 3.91mm; ComponentLink1URL: https://sigma.octopart.com:443/182471030/technical_drawing/Texas-Instruments-SN74HCT125DR.pdf?src-supplier=Texas+Instruments; ComponentLink1Description: https://sigma.octopart.com:443/182471030/technical_drawing/Texas-Instruments-SN74HCT125DR.pdf?src-supplier=Texas+Instruments; ComponentLink2URL: https://octopart.com:443/opatz8j6/c1?t=wEV6A9Gh_7_8nw37lm1d2g4mc3_GVDgNTkftSlQqblF82AIzTnI3EkusXD_v8h37EnS50xJGE0y3YXkTDs20hTFJC83rOm8Id-jgAa82WrRU2vtGGvxEYhUOWqwwL3cIRd4NjPlnMy4-O7ToZgYabJ5XTYttIQYecLL_qXbb6H-qSp1OrO1MTfCh5bhF9fKWm7WgBQcsj3fcH_JoRkDbBaMX_x3LkzcrdV-x6Jw4XlZmcS0mbAt4y7sT1WMV9BF2YWYtBTFkQoGeFD8J2xjzBx9YR9m3R0ARhk1jmAcphELJqLY-y-uOu83E7WLdeesZ-cxyojnixYT_z9gxBtd-eLcxCLzg3VtJuuDVEP-AxDpj_Bvhr91Ubj3fopML1jDdHlB2oGou&src-supplier=Texas+Instruments; ComponentLink2Description: https://octopart.com:443/opatz8j6/c1?t=wEV6A9Gh_7_8nw37lm1d2g4mc3_GVDgNTkftSlQqblF82AIzTnI3EkusXD_v8h37EnS50xJGE0y3YXkTDs20hTFJC83rOm8Id-jgAa82WrRU2vtGGvxEYhUOWqwwL3cIRd4NjPlnMy4-O7ToZgYabJ5XTYttIQYecLL_qXbb6H-qSp1OrO1MTfCh5bhF9fKWm7WgBQcsj3fcH_JoRkDbBaMX_x3LkzcrdV-x6Jw4XlZmcS0mbAt4y7sT1WMV9BF2YWYtBTFkQoGeFD8J2xjzBx9YR9m3R0ARhk1jmAcphELJqLY-y-uOu83E7WLdeesZ-cxyojnixYT_z9gxBtd-eLcxCLzg3VtJuuDVEP-AxDpj_Bvhr91Ubj3fopML1jDdHlB2oGou&src-supplier=Texas+Instruments; ComponentLink3URL: https://datasheet.octopart.com:443/SN74HCT125DR-Texas-Instruments-datasheet-27379623.pdf?src-supplier=Texas+Instruments; ComponentLink3Description: https://datasheet.octopart.com:443/SN74HCT125DR-Texas-Instruments-datasheet-27379623.pdf?src-supplier=Texas+Instruments; ComponentLink4URL: https://datasheet.octopart.com:443/SN74HCT125DR-Texas-Instruments-datasheet-10254676.pdf?src-supplier=Texas+Instruments; ComponentLink4Description: https://datasheet.octopart.com:443/SN74HCT125DR-Texas-Instruments-datasheet-10254676.pdf?src-supplier=Texas+Instruments; ComponentLink5URL: https://sigma.octopart.com:443/49249646/technical_drawing/Texas-Instruments-SN74HCT125DR.pdf?src-supplier=Texas+Instruments; ComponentLink5Description: https://sigma.octopart.com:443/49249646/technical_drawing/Texas-Instruments-SN74HCT125DR.pdf?src-supplier=Texas+Instruments; ComponentLink6URL: https://datasheet.octopart.com:443/SN74HCT125DR-Texas-Instruments-datasheet-152071.pdf?src-supplier=Texas+Instruments; ComponentLink6Description: https://datasheet.octopart.com:443/SN74HCT125DR-Texas-Instruments-datasheet-152071.pdf?src-supplier=Texas+Instruments; ComponentLink7URL: https://datasheet.octopart.com:443/SN74HCT125DR-Texas-Instruments-datasheet-148780591.pdf?src-supplier=Upverter; ComponentLink7Description: https://datasheet.octopart.com:443/SN74HCT125DR-Texas-Instruments-datasheet-148780591.pdf?src-supplier=Upverter; ComponentLink8URL: https://datasheet.octopart.com:443/SN74HCT125DR-Texas-Instruments-datasheet-164417431.pdf?src-supplier=SHENGYU+ELECTRONICS; ComponentLink8Description: https://datasheet.octopart.com:443/SN74HCT125DR-Texas-Instruments-datasheet-164417431.pdf?src-supplier=SHENGYU+ELECTRONICS; ComponentLink9URL: https://datasheet.octopart.com:443/SN74HCT125DR-Texas-Instruments-datasheet-14145064.pdf?src-supplier=iiiC; ComponentLink9Description: https://datasheet.octopart.com:443/SN74HCT125DR-Texas-Instruments-datasheet-14145064.pdf?src-supplier=iiiC; ComponentLink10URL: https://datasheet.octopart.com:443/SN74HCT125DR-Texas-Instruments-datasheet-11793522.pdf?src-supplier=Arrow+Electronics; ComponentLink10Description: https://datasheet.octopart.com:443/SN74HCT125DR-Texas-Instruments-datasheet-11793522.pdf?src-supplier=Arrow+Electronics; ComponentLink11URL: https://datasheet.octopart.com:443/SN74HCT125DR-Texas-Instruments-datasheet-8637610.pdf?src-supplier=Verical; ComponentLink11Description: https://datasheet.octopart.com:443/SN74HCT125DR-Texas-Instruments-datasheet-8637610.pdf?src-supplier=Verical; ComponentLink12URL: https://datasheet.octopart.com:443/SN74HCT125DR-Texas-Instruments-datasheet-5321032.pdf?src-supplier=Verical; ComponentLink12Description: https://datasheet.octopart.com:443/SN74HCT125DR-Texas-Instruments-datasheet-5321032.pdf?src-supplier=Verical; ComponentLink13URL: https://datasheet.octopart.com:443/SN74HCT125DR-Texas-Instruments-datasheet-10451259.pdf?src-supplier=Jameco; ComponentLink13Description: https://datasheet.octopart.com:443/SN74HCT125DR-Texas-Instruments-datasheet-10451259.pdf?src-supplier=Jameco; ComponentLink14URL: https://datasheet.octopart.com:443/SN74HCT125DR-Texas-Instruments-datasheet-58090.pdf?src-supplier=DigiKey; ComponentLink14Description: https://datasheet.octopart.com:443/SN74HCT125DR-Texas-Instruments-datasheet-58090.pdf?src-supplier=DigiKey; ComponentLink15URL: https://datasheet.octopart.com:443/SN74HCT125DR-Texas-Instruments-datasheet-114889.pdf?src-supplier=Sierra+IC; ComponentLink15Description: https://datasheet.octopart.com:443/SN74HCT125DR-Texas-Instruments-datasheet-114889.pdf?src-supplier=Sierra+IC; ComponentLink16URL: http://sigma.octopart.com:80/conflict_mineral_statement/Texas-Instruments-company-63.pdf?src-supplier=Compliance+Statements; ComponentLink16Description: http://sigma.octopart.com:80/conflict_mineral_statement/Texas-Instruments-company-63.pdf?src-supplier=Compliance+Statements; ComponentLink17URL: http://sigma.octopart.com:80/reach_statement/Texas-Instruments-company-64.pdf?src-supplier=Compliance+Statements; ComponentLink17Description: http://sigma.octopart.com:80/reach_statement/Texas-Instruments-company-64.pdf?src-supplier=Compliance+Statements
footprint SN74HCT125DR
pins: 1 1~{OE} (in), 2 1A (in), 3 1Y (out), 4 2~{OE} (in), 5 2A (in), 6 2Y (out), 7 GND (power), 8 3Y (out), 9 3A (in), 10 3~{OE} (in), 11 4Y (out), 12 4A (in), 13 4~{OE} (in), 14 VCC (power)